# EAGLE library part M74HC148B1R (library ST_Microelctronics_By_element14_Batch_1)
8 TO 3 LINE PRIORITY ENCODER
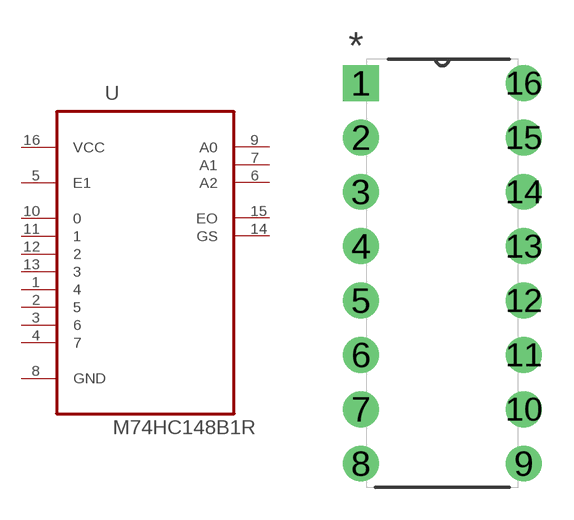
[diagram p219: symbol with the pads of DIP254P762X510-16; footprint DIP254P762X510-16]

Designator prefix U

## M74HC148B1R (MPN: M74HC148B1R; OC_FARNELL: 1282854; OC_NEWARK: 89K0864; PACKAGE: DIP-16; SUPPLIER: STMICROELECTRONICS)  [DIP254P762X510-16]
1  4  in
2  5  in
3  6  in
4  7  in
5  E1  in
6  A2  out
7  A1  out
8  GND  pas
9  A0  in
10  0  in
11  1  in
12  2  in
13  3  in
14  GS  out
15  EO  out
16  VCC  pwr

## Footprint DIP254P762X510-16 (pad centres in mm)
drill 1.118 square: 1 -7.62,17.78
drill 1.118: 2 -7.62,15.24; 3 -7.62,12.7; 4 -7.62,10.16; 5 -7.62,7.62; 6 -7.62,5.08; 7 -7.62,2.54; 8 -7.62,0; 9 0,0; 10 0,2.54; 11 0,5.08; 12 0,7.62; 13 0,10.16; 14 0,12.7; 15 0,15.24; 16 0,17.78